# Altium schematic symbol library WE-TI.SchLib: 140 symbols (part 2 of 3)
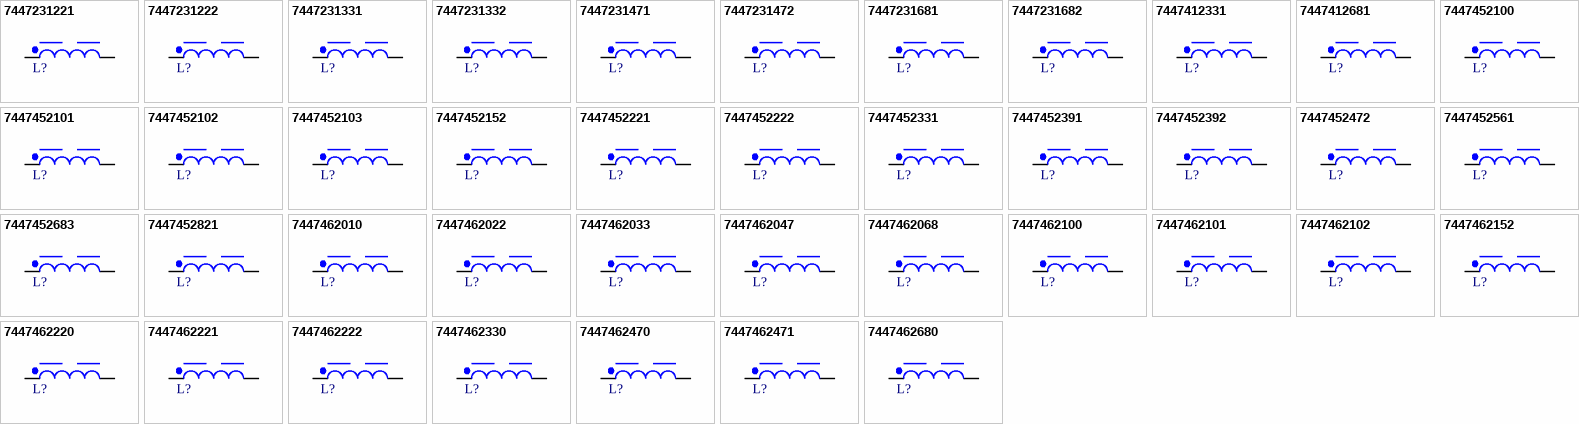
[diagram p4: symbols 7447231221 to 7447462680]

## 7447452391
designator L?, comment 390uH, 1A  (value not drawn)
WE-TI Radial Leaded Wire Wound Inductor, size 8012, 390uH, 1A, 0.52Ohm; Manufacturer Part Number: 7447452391; Manufacturer: Wurth Elektronik; Case/Size Code: 8012; Saturation Current @ 10%: 0.8A; Self Resonant Frequency: 2.4MHz; Category: Power Inductors; Match Code: WE-TI; ComponentLink1Description: Website Link; ComponentLink1URL: https://www.we-online.com/redexpert/article/7447452391?ad; ComponentLink2Description: Datasheet Link; ComponentLink2URL: https://www.we-online.com/redexpert/spec/7447452391?ad; Mount: Through Hole; Operating Temperature Max: 125°C; Operating Temperature Min: -40°C; Packaging: Tray; Height: 13.5mm; Diameter: 9.5mm; DC Resistance Max: 0.52Ohm; Inductance: 390uH; Rated Current: 1A
footprint WE-TI_8012
simulation model 8012_7447452391_390u
pins: 1, 2

## 7447452392
designator L?, comment 3900uH, 0.28A  (value not drawn)
WE-TI Radial Leaded Wire Wound Inductor, size 8012, 3900uH, 0.28A, 4.8Ohm; Manufacturer Part Number: 7447452392; Manufacturer: Wurth Elektronik; Case/Size Code: 8012; Saturation Current @ 10%: 0.25A; Self Resonant Frequency: 0.78MHz; Category: Power Inductors; Match Code: WE-TI; ComponentLink1Description: Website Link; ComponentLink1URL: https://www.we-online.com/redexpert/article/7447452392?ad; ComponentLink2Description: Datasheet Link; ComponentLink2URL: https://www.we-online.com/redexpert/spec/7447452392?ad; Mount: Through Hole; Operating Temperature Max: 125°C; Operating Temperature Min: -40°C; Packaging: Tray; Height: 13.5mm; Diameter: 9.5mm; DC Resistance Max: 4.8Ohm; Inductance: 3900uH; Rated Current: 0.28A
footprint WE-TI_8012
simulation model 8012_7447452392_3900u
pins: 1, 2

## 7447452472
designator L?, comment 4700uH, 0.23A  (value not drawn)
WE-TI Radial Leaded Wire Wound Inductor, size 8012, 4700uH, 0.23A, 7Ohm; Manufacturer Part Number: 7447452472; Manufacturer: Wurth Elektronik; Case/Size Code: 8012; Saturation Current @ 10%: 0.2A; Self Resonant Frequency: 0.65MHz; Category: Power Inductors; Match Code: WE-TI; ComponentLink1Description: Website Link; ComponentLink1URL: https://www.we-online.com/redexpert/article/7447452472?ad; ComponentLink2Description: Datasheet Link; ComponentLink2URL: https://www.we-online.com/redexpert/spec/7447452472?ad; Mount: Through Hole; Operating Temperature Max: 125°C; Operating Temperature Min: -40°C; Packaging: Tray; Height: 13.5mm; Diameter: 9.5mm; DC Resistance Max: 7Ohm; Inductance: 4700uH; Rated Current: 0.23A
footprint WE-TI_8012
simulation model 8012_7447452472_4700u
pins: 1, 2

## 7447452561
designator L?, comment 560uH, 0.81A  (value not drawn)
WE-TI Radial Leaded Wire Wound Inductor, size 8012, 560uH, 0.81A, 0.85Ohm; Manufacturer Part Number: 7447452561; Manufacturer: Wurth Elektronik; Case/Size Code: 8012; Saturation Current @ 10%: 0.75A; Self Resonant Frequency: 1.9MHz; Category: Power Inductors; Match Code: WE-TI; ComponentLink1Description: Website Link; ComponentLink1URL: https://www.we-online.com/redexpert/article/7447452561?ad; ComponentLink2Description: Datasheet Link; ComponentLink2URL: https://www.we-online.com/redexpert/spec/7447452561?ad; Mount: Through Hole; Operating Temperature Max: 125°C; Operating Temperature Min: -40°C; Packaging: Tray; Height: 13.5mm; Diameter: 9.5mm; DC Resistance Max: 0.85Ohm; Inductance: 560uH; Rated Current: 0.81A
footprint WE-TI_8012
simulation model 8012_7447452561_560u
pins: 1, 2

## 7447452683
designator L?, comment 68000uH, 0.05A  (value not drawn)
WE-TI Radial Leaded Wire Wound Inductor, size 8012, 68000uH, 0.05A, 106Ohm; Manufacturer Part Number: 7447452683; Manufacturer: Wurth Elektronik; Case/Size Code: 8012; Saturation Current @ 10%: 0.07A; Self Resonant Frequency: 0.16MHz; Category: Power Inductors; Match Code: WE-TI; ComponentLink1Description: Website Link; ComponentLink1URL: https://www.we-online.com/redexpert/article/7447452683?ad; ComponentLink2Description: Datasheet Link; ComponentLink2URL: https://www.we-online.com/redexpert/spec/7447452683?ad; Mount: Through Hole; Operating Temperature Max: 125°C; Operating Temperature Min: -40°C; Packaging: Tray; Height: 13.5mm; Diameter: 9.5mm; DC Resistance Max: 106Ohm; Inductance: 68000uH; Rated Current: 0.05A
footprint WE-TI_8012
simulation model 8012_7447452683_68000u
pins: 1, 2

## 7447452821
designator L?, comment 820uH, 0.7A  (value not drawn)
WE-TI Radial Leaded Wire Wound Inductor, size 8012, 820uH, 0.7A, 1.2Ohm; Manufacturer Part Number: 7447452821; Manufacturer: Wurth Elektronik; Case/Size Code: 8012; Saturation Current @ 10%: 0.6A; Self Resonant Frequency: 1.5MHz; Category: Power Inductors; Match Code: WE-TI; ComponentLink1Description: Website Link; ComponentLink1URL: https://www.we-online.com/redexpert/article/7447452821?ad; ComponentLink2Description: Datasheet Link; ComponentLink2URL: https://www.we-online.com/redexpert/spec/7447452821?ad; Mount: Through Hole; Operating Temperature Max: 125°C; Operating Temperature Min: -40°C; Packaging: Tray; Height: 13.5mm; Diameter: 9.5mm; DC Resistance Max: 1.2Ohm; Inductance: 820uH; Rated Current: 0.7A
footprint WE-TI_8012
simulation model 8012_7447452821_820u
pins: 1, 2

## 7447462010
designator L?, comment 1uH, 8.5A  (value not drawn)
WE-TI Radial Leaded Wire Wound Inductor, size 5075, 1uH, 8.5A, 0.015Ohm; Manufacturer Part Number: 7447462010; Manufacturer: Wurth Elektronik; Case/Size Code: 5075; Self Resonant Frequency: 140MHz; Category: Power Inductors; Match Code: WE-TI; ComponentLink1Description: Website Link; ComponentLink1URL: https://www.we-online.com/redexpert/article/7447462010?ad; ComponentLink2Description: Datasheet Link; ComponentLink2URL: https://www.we-online.com/redexpert/spec/7447462010?ad; Mount: Through Hole; Operating Temperature Max: 125°C; Operating Temperature Min: -40°C; Packaging: Tray; Height: 8.5mm; Diameter: 6mm; DC Resistance Max: 0.015Ohm; Inductance: 1uH; Rated Current: 8.5A; Saturation Current @ 10%: 8.5A
footprint WE-TI_5075
simulation model 5075_7447462010_1u
pins: 1, 2

## 7447462022
designator L?, comment 2.2uH, 6.3A  (value not drawn)
WE-TI Radial Leaded Wire Wound Inductor, size 5075, 2.2uH, 6.3A, 0.02Ohm; Manufacturer Part Number: 7447462022; Manufacturer: Wurth Elektronik; Case/Size Code: 5075; Saturation Current @ 10%: 5.7A; Self Resonant Frequency: 65MHz; Category: Power Inductors; Match Code: WE-TI; ComponentLink1Description: Website Link; ComponentLink1URL: https://www.we-online.com/redexpert/article/7447462022?ad; ComponentLink2Description: Datasheet Link; ComponentLink2URL: https://www.we-online.com/redexpert/spec/7447462022?ad; Mount: Through Hole; Operating Temperature Max: 125°C; Operating Temperature Min: -40°C; Packaging: Tray; Height: 8.5mm; Diameter: 6mm; DC Resistance Max: 0.02Ohm; Inductance: 2.2uH; Rated Current: 6.3A
footprint WE-TI_5075
simulation model 5075_7447462022_2.2u
pins: 1, 2

## 7447462033
designator L?, comment 3.3uH, 4.7A  (value not drawn)
WE-TI Radial Leaded Wire Wound Inductor, size 5075, 3.3uH, 4.7A, 0.025Ohm; Manufacturer Part Number: 7447462033; Manufacturer: Wurth Elektronik; Case/Size Code: 5075; Saturation Current @ 10%: 4.6A; Self Resonant Frequency: 48MHz; Category: Power Inductors; Match Code: WE-TI; ComponentLink1Description: Website Link; ComponentLink1URL: https://www.we-online.com/redexpert/article/7447462033?ad; ComponentLink2Description: Datasheet Link; ComponentLink2URL: https://www.we-online.com/redexpert/spec/7447462033?ad; Mount: Through Hole; Operating Temperature Max: 125°C; Operating Temperature Min: -40°C; Packaging: Tray; Height: 8.5mm; Diameter: 6mm; DC Resistance Max: 0.025Ohm; Inductance: 3.3uH; Rated Current: 4.7A
footprint WE-TI_5075
simulation model 5075_7447462033_3.3u
pins: 1, 2

## 7447462047
designator L?, comment 4.7uH, 4.2A  (value not drawn)
WE-TI Radial Leaded Wire Wound Inductor, size 5075, 4.7uH, 4.2A, 0.03Ohm; Manufacturer Part Number: 7447462047; Manufacturer: Wurth Elektronik; Case/Size Code: 5075; Saturation Current @ 10%: 3.7A; Self Resonant Frequency: 40MHz; Category: Power Inductors; Match Code: WE-TI; ComponentLink1Description: Website Link; ComponentLink1URL: https://www.we-online.com/redexpert/article/7447462047?ad; ComponentLink2Description: Datasheet Link; ComponentLink2URL: https://www.we-online.com/redexpert/spec/7447462047?ad; Mount: Through Hole; Operating Temperature Max: 125°C; Operating Temperature Min: -40°C; Packaging: Tray; Height: 8.5mm; Diameter: 6mm; DC Resistance Max: 0.03Ohm; Inductance: 4.7uH; Rated Current: 4.2A
footprint WE-TI_5075
simulation model 5075_7447462047_4.7u
pins: 1, 2

## 7447462068
designator L?, comment 6.8uH, 3.3A  (value not drawn)
WE-TI Radial Leaded Wire Wound Inductor, size 5075, 6.8uH, 3.3A, 0.034Ohm; Manufacturer Part Number: 7447462068; Manufacturer: Wurth Elektronik; Case/Size Code: 5075; Saturation Current @ 10%: 3A; Self Resonant Frequency: 32MHz; Category: Power Inductors; Match Code: WE-TI; ComponentLink1Description: Website Link; ComponentLink1URL: https://www.we-online.com/redexpert/article/7447462068?ad; ComponentLink2Description: Datasheet Link; ComponentLink2URL: https://www.we-online.com/redexpert/spec/7447462068?ad; Mount: Through Hole; Operating Temperature Max: 125°C; Operating Temperature Min: -40°C; Packaging: Tray; Height: 8.5mm; Diameter: 6mm; DC Resistance Max: 0.034Ohm; Inductance: 6.8uH; Rated Current: 3.3A
footprint WE-TI_5075
simulation model 5075_7447462068_6.8u
pins: 1, 2

## 7447462100
designator L?, comment 10uH, 2.5A  (value not drawn)
WE-TI Radial Leaded Wire Wound Inductor, size 5075, 10uH, 2.5A, 0.08Ohm; Manufacturer Part Number: 7447462100; Manufacturer: Wurth Elektronik; Case/Size Code: 5075; Saturation Current @ 10%: 2.6A; Self Resonant Frequency: 28MHz; Category: Power Inductors; Match Code: WE-TI; ComponentLink1Description: Website Link; ComponentLink1URL: https://www.we-online.com/redexpert/article/7447462100?ad; ComponentLink2Description: Datasheet Link; ComponentLink2URL: https://www.we-online.com/redexpert/spec/7447462100?ad; Mount: Through Hole; Operating Temperature Max: 125°C; Operating Temperature Min: -40°C; Packaging: Tray; Height: 8.5mm; Diameter: 6mm; DC Resistance Max: 0.08Ohm; Inductance: 10uH; Rated Current: 2.5A
footprint WE-TI_5075
simulation model 5075_7447462100_10u
pins: 1, 2

## 7447462101
designator L?, comment 100uH, 0.8A  (value not drawn)
WE-TI Radial Leaded Wire Wound Inductor, size 5075, 100uH, 0.8A, 0.65Ohm; Manufacturer Part Number: 7447462101; Manufacturer: Wurth Elektronik; Case/Size Code: 5075; Self Resonant Frequency: 7.1MHz; Category: Power Inductors; Match Code: WE-TI; ComponentLink1Description: Website Link; ComponentLink1URL: https://www.we-online.com/redexpert/article/7447462101?ad; ComponentLink2Description: Datasheet Link; ComponentLink2URL: https://www.we-online.com/redexpert/spec/7447462101?ad; Mount: Through Hole; Operating Temperature Max: 125°C; Operating Temperature Min: -40°C; Packaging: Tray; Height: 8.5mm; Diameter: 6mm; DC Resistance Max: 0.65Ohm; Inductance: 100uH; Rated Current: 0.8A; Saturation Current @ 10%: 0.8A
footprint WE-TI_5075
simulation model 5075_7447462101_100u
pins: 1, 2

## 7447462102
designator L?, comment 1000uH, 0.25A  (value not drawn)
WE-TI Radial Leaded Wire Wound Inductor, size 5075, 1000uH, 0.25A, 6Ohm; Manufacturer Part Number: 7447462102; Manufacturer: Wurth Elektronik; Case/Size Code: 5075; Saturation Current @ 10%: 0.27A; Self Resonant Frequency: 2.3MHz; Category: Power Inductors; Match Code: WE-TI; ComponentLink1Description: Website Link; ComponentLink1URL: https://www.we-online.com/redexpert/article/7447462102?ad; ComponentLink2Description: Datasheet Link; ComponentLink2URL: https://www.we-online.com/redexpert/spec/7447462102?ad; Mount: Through Hole; Operating Temperature Max: 125°C; Operating Temperature Min: -40°C; Packaging: Tray; Height: 8.5mm; Diameter: 6mm; DC Resistance Max: 6Ohm; Inductance: 1000uH; Rated Current: 0.25A
footprint WE-TI_5075
simulation model 5075_7447462102_1000u
pins: 1, 2

## 7447462152
designator L?, comment 1500uH, 0.19A  (value not drawn)
WE-TI Radial Leaded Wire Wound Inductor, size 5075, 1500uH, 0.19A, 8Ohm; Manufacturer Part Number: 7447462152; Manufacturer: Wurth Elektronik; Case/Size Code: 5075; Saturation Current @ 10%: 0.22A; Self Resonant Frequency: 1.8MHz; Category: Power Inductors; Match Code: WE-TI; ComponentLink1Description: Website Link; ComponentLink1URL: https://www.we-online.com/redexpert/article/7447462152?ad; ComponentLink2Description: Datasheet Link; ComponentLink2URL: https://www.we-online.com/redexpert/spec/7447462152?ad; Mount: Through Hole; Operating Temperature Max: 125°C; Operating Temperature Min: -40°C; Packaging: Tray; Height: 8.5mm; Diameter: 6mm; DC Resistance Max: 8Ohm; Inductance: 1500uH; Rated Current: 0.19A
footprint WE-TI_5075
simulation model 5075_7447462152_1500u
pins: 1, 2

## 7447462220
designator L?, comment 22uH, 1.8A  (value not drawn)
WE-TI Radial Leaded Wire Wound Inductor, size 5075, 22uH, 1.8A, 0.13Ohm; Manufacturer Part Number: 7447462220; Manufacturer: Wurth Elektronik; Case/Size Code: 5075; Saturation Current @ 10%: 1.7A; Self Resonant Frequency: 15MHz; Category: Power Inductors; Match Code: WE-TI; ComponentLink1Description: Website Link; ComponentLink1URL: https://www.we-online.com/redexpert/article/7447462220?ad; ComponentLink2Description: Datasheet Link; ComponentLink2URL: https://www.we-online.com/redexpert/spec/7447462220?ad; Mount: Through Hole; Operating Temperature Max: 125°C; Operating Temperature Min: -40°C; Packaging: Tray; Height: 8.5mm; Diameter: 6mm; DC Resistance Max: 0.13Ohm; Inductance: 22uH; Rated Current: 1.8A
footprint WE-TI_5075
simulation model 5075_7447462220_22u
pins: 1, 2

## 7447462221
designator L?, comment 220uH, 0.5A  (value not drawn)
WE-TI Radial Leaded Wire Wound Inductor, size 5075, 220uH, 0.5A, 1.2Ohm; Manufacturer Part Number: 7447462221; Manufacturer: Wurth Elektronik; Case/Size Code: 5075; Saturation Current @ 10%: 0.57A; Self Resonant Frequency: 4.8MHz; Category: Power Inductors; Match Code: WE-TI; ComponentLink1Description: Website Link; ComponentLink1URL: https://www.we-online.com/redexpert/article/7447462221?ad; ComponentLink2Description: Datasheet Link; ComponentLink2URL: https://www.we-online.com/redexpert/spec/7447462221?ad; Mount: Through Hole; Operating Temperature Max: 125°C; Operating Temperature Min: -40°C; Packaging: Tray; Height: 8.5mm; Diameter: 6mm; DC Resistance Max: 1.2Ohm; Inductance: 220uH; Rated Current: 0.5A
footprint WE-TI_5075
simulation model 5075_7447462221_220u
pins: 1, 2

## 7447462222
designator L?, comment 2200uH, 0.16A  (value not drawn)
WE-TI Radial Leaded Wire Wound Inductor, size 5075, 2200uH, 0.16A, 15Ohm; Manufacturer Part Number: 7447462222; Manufacturer: Wurth Elektronik; Case/Size Code: 5075; Saturation Current @ 10%: 0.18A; Self Resonant Frequency: 1.2MHz; Category: Power Inductors; Match Code: WE-TI; ComponentLink1Description: Website Link; ComponentLink1URL: https://www.we-online.com/redexpert/article/7447462222?ad; ComponentLink2Description: Datasheet Link; ComponentLink2URL: https://www.we-online.com/redexpert/spec/7447462222?ad; Mount: Through Hole; Operating Temperature Max: 125°C; Operating Temperature Min: -40°C; Packaging: Tray; Height: 8.5mm; Diameter: 6mm; DC Resistance Max: 15Ohm; Inductance: 2200uH; Rated Current: 0.16A
footprint WE-TI_5075
simulation model 5075_7447462222_2200u
pins: 1, 2

## 7447462330
designator L?, comment 33uH, 1.4A  (value not drawn)
WE-TI Radial Leaded Wire Wound Inductor, size 5075, 33uH, 1.4A, 0.22Ohm; Manufacturer Part Number: 7447462330; Manufacturer: Wurth Elektronik; Case/Size Code: 5075; Self Resonant Frequency: 14MHz; Category: Power Inductors; Match Code: WE-TI; ComponentLink1Description: Website Link; ComponentLink1URL: https://www.we-online.com/redexpert/article/7447462330?ad; ComponentLink2Description: Datasheet Link; ComponentLink2URL: https://www.we-online.com/redexpert/spec/7447462330?ad; Mount: Through Hole; Operating Temperature Max: 125°C; Operating Temperature Min: -40°C; Packaging: Tray; Height: 8.5mm; Diameter: 6mm; DC Resistance Max: 0.22Ohm; Inductance: 33uH; Rated Current: 1.4A; Saturation Current @ 10%: 1.4A
footprint WE-TI_5075
simulation model 5075_7447462330_33u
pins: 1, 2

## 7447462470
designator L?, comment 47uH, 1.18A  (value not drawn)
WE-TI Radial Leaded Wire Wound Inductor, size 5075, 47uH, 1.18A, 0.34Ohm; Manufacturer Part Number: 7447462470; Manufacturer: Wurth Elektronik; Case/Size Code: 5075; Saturation Current @ 10%: 1.2A; Self Resonant Frequency: 10.6MHz; Category: Power Inductors; Match Code: WE-TI; ComponentLink1Description: Website Link; ComponentLink1URL: https://www.we-online.com/redexpert/article/7447462470?ad; ComponentLink2Description: Datasheet Link; ComponentLink2URL: https://www.we-online.com/redexpert/spec/7447462470?ad; Mount: Through Hole; Operating Temperature Max: 125°C; Operating Temperature Min: -40°C; Packaging: Tray; Height: 8.5mm; Diameter: 6mm; DC Resistance Max: 0.34Ohm; Inductance: 47uH; Rated Current: 1.18A
footprint WE-TI_5075
simulation model 5075_7447462470_47u
pins: 1, 2

## 7447462471
designator L?, comment 470uH, 0.35A  (value not drawn)
WE-TI Radial Leaded Wire Wound Inductor, size 5075, 470uH, 0.35A, 2.4Ohm; Manufacturer Part Number: 7447462471; Manufacturer: Wurth Elektronik; Case/Size Code: 5075; Saturation Current @ 10%: 0.4A; Self Resonant Frequency: 3.4MHz; Category: Power Inductors; Match Code: WE-TI; ComponentLink1Description: Website Link; ComponentLink1URL: https://www.we-online.com/redexpert/article/7447462471?ad; ComponentLink2Description: Datasheet Link; ComponentLink2URL: https://www.we-online.com/redexpert/spec/7447462471?ad; Mount: Through Hole; Operating Temperature Max: 125°C; Operating Temperature Min: -40°C; Packaging: Tray; Height: 8.5mm; Diameter: 6mm; DC Resistance Max: 2.4Ohm; Inductance: 470uH; Rated Current: 0.35A
footprint WE-TI_5075
simulation model 5075_7447462471_470u
pins: 1, 2

## 7447462680
designator L?, comment 68uH, 0.8A  (value not drawn)
WE-TI Radial Leaded Wire Wound Inductor, size 5075, 68uH, 0.8A, 0.4Ohm; Manufacturer Part Number: 7447462680; Manufacturer: Wurth Elektronik; Case/Size Code: 5075; Saturation Current @ 10%: 1A; Self Resonant Frequency: 7.5MHz; Category: Power Inductors; Match Code: WE-TI; ComponentLink1Description: Website Link; ComponentLink1URL: https://www.we-online.com/redexpert/article/7447462680?ad; ComponentLink2Description: Datasheet Link; ComponentLink2URL: https://www.we-online.com/redexpert/spec/7447462680?ad; Mount: Through Hole; Operating Temperature Max: 125°C; Operating Temperature Min: -40°C; Packaging: Tray; Height: 8.5mm; Diameter: 6mm; DC Resistance Max: 0.4Ohm; Inductance: 68uH; Rated Current: 0.8A
footprint WE-TI_5075
simulation model 5075_7447462680_68u
pins: 1, 2

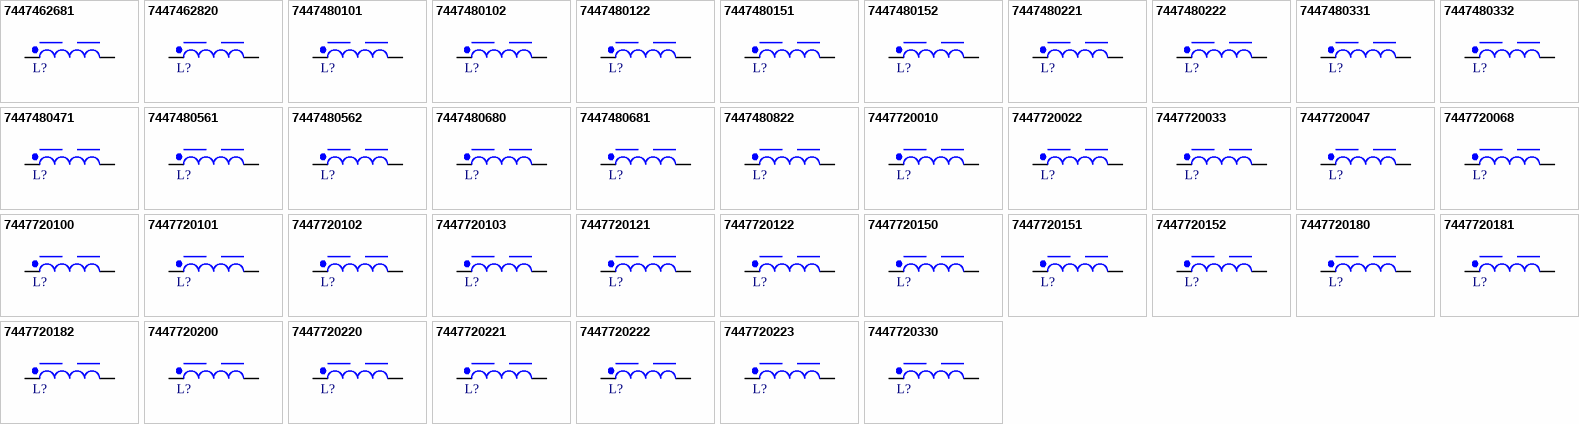
[diagram p2: symbols 7447462681 to 7447720330]

## 7447462681
designator L?, comment 680uH, 0.25A  (value not drawn)
WE-TI Radial Leaded Wire Wound Inductor, size 5075, 680uH, 0.25A, 3.7Ohm; Manufacturer Part Number: 7447462681; Manufacturer: Wurth Elektronik; Case/Size Code: 5075; Saturation Current @ 10%: 0.3A; Self Resonant Frequency: 2.4MHz; Category: Power Inductors; Match Code: WE-TI; ComponentLink1Description: Website Link; ComponentLink1URL: https://www.we-online.com/redexpert/article/7447462681?ad; ComponentLink2Description: Datasheet Link; ComponentLink2URL: https://www.we-online.com/redexpert/spec/7447462681?ad; Mount: Through Hole; Operating Temperature Max: 125°C; Operating Temperature Min: -40°C; Packaging: Tray; Height: 8.5mm; Diameter: 6mm; DC Resistance Max: 3.7Ohm; Inductance: 680uH; Rated Current: 0.25A
footprint WE-TI_5075
simulation model 5075_7447462681_680u
pins: 1, 2

## 7447462820
designator L?, comment 82uH, 0.8A  (value not drawn)
WE-TI Radial Leaded Wire Wound Inductor, size 5075, 82uH, 0.8A, 0.47Ohm; Manufacturer Part Number: 7447462820; Manufacturer: Wurth Elektronik; Case/Size Code: 5075; Saturation Current @ 10%: 0.9A; Self Resonant Frequency: 7.2MHz; Category: Power Inductors; Match Code: WE-TI; ComponentLink1Description: Website Link; ComponentLink1URL: https://www.we-online.com/redexpert/article/7447462820?ad; ComponentLink2Description: Datasheet Link; ComponentLink2URL: https://www.we-online.com/redexpert/spec/7447462820?ad; Mount: Through Hole; Operating Temperature Max: 125°C; Operating Temperature Min: -40°C; Packaging: Tray; Height: 8.5mm; Diameter: 6mm; DC Resistance Max: 0.47Ohm; Inductance: 82uH; Rated Current: 0.8A
footprint WE-TI_5075
simulation model 5075_7447462820_82u
pins: 1, 2

## 7447480101
designator L?, comment 100uH, 2.4A  (value not drawn)
WE-TI Radial Leaded Wire Wound Inductor, size 1014, 100uH, 2.4A, 0.125Ohm; Manufacturer Part Number: 7447480101; Manufacturer: Wurth Elektronik; Case/Size Code: 1014; Saturation Current @ 10%: 2.5A; Self Resonant Frequency: 4.5MHz; Category: Power Inductors; Match Code: WE-TI; ComponentLink1Description: Website Link; ComponentLink1URL: https://www.we-online.com/redexpert/article/7447480101?ad; ComponentLink2Description: Datasheet Link; ComponentLink2URL: https://www.we-online.com/redexpert/spec/7447480101?ad; Mount: Through Hole; Operating Temperature Max: 125°C; Operating Temperature Min: -40°C; Packaging: Tray; Height: 14.5mm; Diameter: 10.5mm; DC Resistance Max: 0.125Ohm; Inductance: 100uH; Rated Current: 2.4A
footprint WE-TI_1014
simulation model 1014_7447480101_100u
pins: 1, 2

## 7447480102
designator L?, comment 1000uH, 0.8A  (value not drawn)
WE-TI Radial Leaded Wire Wound Inductor, size 1014, 1000uH, 0.8A, 1.15Ohm; Manufacturer Part Number: 7447480102; Manufacturer: Wurth Elektronik; Case/Size Code: 1014; Self Resonant Frequency: 1.1MHz; Category: Power Inductors; Match Code: WE-TI; ComponentLink1Description: Website Link; ComponentLink1URL: https://www.we-online.com/redexpert/article/7447480102?ad; ComponentLink2Description: Datasheet Link; ComponentLink2URL: https://www.we-online.com/redexpert/spec/7447480102?ad; Mount: Through Hole; Operating Temperature Max: 125°C; Operating Temperature Min: -40°C; Packaging: Tray; Height: 14.5mm; Diameter: 10.5mm; DC Resistance Max: 1.15Ohm; Inductance: 1000uH; Rated Current: 0.8A; Saturation Current @ 10%: 0.8A
footprint WE-TI_1014
simulation model 1014_7447480102_1000u
pins: 1, 2

## 7447480122
designator L?, comment 1200uH, 0.7A  (value not drawn)
WE-TI Radial Leaded Wire Wound Inductor, size 1014, 1200uH, 0.7A, 1.4Ohm; Manufacturer Part Number: 7447480122; Manufacturer: Wurth Elektronik; Case/Size Code: 1014; Saturation Current @ 10%: 0.75A; Self Resonant Frequency: 1MHz; Category: Power Inductors; Match Code: WE-TI; ComponentLink1Description: Website Link; ComponentLink1URL: https://www.we-online.com/redexpert/article/7447480122?ad; ComponentLink2Description: Datasheet Link; ComponentLink2URL: https://www.we-online.com/redexpert/spec/7447480122?ad; Mount: Through Hole; Operating Temperature Max: 125°C; Operating Temperature Min: -40°C; Packaging: Tray; Height: 14.5mm; Diameter: 10.5mm; DC Resistance Max: 1.4Ohm; Inductance: 1200uH; Rated Current: 0.7A
footprint WE-TI_1014
simulation model 1014_7447480122_1200u
pins: 1, 2

## 7447480151
designator L?, comment 150uH, 2A  (value not drawn)
WE-TI Radial Leaded Wire Wound Inductor, size 1014, 150uH, 2A, 0.18Ohm; Manufacturer Part Number: 7447480151; Manufacturer: Wurth Elektronik; Case/Size Code: 1014; Saturation Current @ 10%: 2.1A; Self Resonant Frequency: 3.5MHz; Category: Power Inductors; Match Code: WE-TI; ComponentLink1Description: Website Link; ComponentLink1URL: https://www.we-online.com/redexpert/article/7447480151?ad; ComponentLink2Description: Datasheet Link; ComponentLink2URL: https://www.we-online.com/redexpert/spec/7447480151?ad; Mount: Through Hole; Operating Temperature Max: 125°C; Operating Temperature Min: -40°C; Packaging: Tray; Height: 14.5mm; Diameter: 10.5mm; DC Resistance Max: 0.18Ohm; Inductance: 150uH; Rated Current: 2A
footprint WE-TI_1014
simulation model 1014_7447480151_150u
pins: 1, 2

## 7447480152
designator L?, comment 1500uH, 0.68A  (value not drawn)
WE-TI Radial Leaded Wire Wound Inductor, size 1014, 1500uH, 0.68A, 1.8Ohm; Manufacturer Part Number: 7447480152; Manufacturer: Wurth Elektronik; Case/Size Code: 1014; Saturation Current @ 10%: 0.6A; Self Resonant Frequency: 1MHz; Category: Power Inductors; Match Code: WE-TI; ComponentLink1Description: Website Link; ComponentLink1URL: https://www.we-online.com/redexpert/article/7447480152?ad; ComponentLink2Description: Datasheet Link; ComponentLink2URL: https://www.we-online.com/redexpert/spec/7447480152?ad; Mount: Through Hole; Operating Temperature Max: 125°C; Operating Temperature Min: -40°C; Packaging: Tray; Height: 14.5mm; Diameter: 10.5mm; DC Resistance Max: 1.8Ohm; Inductance: 1500uH; Rated Current: 0.68A
footprint WE-TI_1014
simulation model 1014_7447480152_1500u
pins: 1, 2

## 7447480221
designator L?, comment 220uH, 1.6A  (value not drawn)
WE-TI Radial Leaded Wire Wound Inductor, size 1014, 220uH, 1.6A, 0.26Ohm; Manufacturer Part Number: 7447480221; Manufacturer: Wurth Elektronik; Case/Size Code: 1014; Saturation Current @ 10%: 1.75A; Self Resonant Frequency: 2.3MHz; Category: Power Inductors; Match Code: WE-TI; ComponentLink1Description: Website Link; ComponentLink1URL: https://www.we-online.com/redexpert/article/7447480221?ad; ComponentLink2Description: Datasheet Link; ComponentLink2URL: https://www.we-online.com/redexpert/spec/7447480221?ad; Mount: Through Hole; Operating Temperature Max: 125°C; Operating Temperature Min: -40°C; Packaging: Tray; Height: 14.5mm; Diameter: 10.5mm; DC Resistance Max: 0.26Ohm; Inductance: 220uH; Rated Current: 1.6A
footprint WE-TI_1014
simulation model 1014_7447480221_220u
pins: 1, 2

## 7447480222
designator L?, comment 2200uH, 0.48A  (value not drawn)
WE-TI Radial Leaded Wire Wound Inductor, size 1014, 2200uH, 0.48A, 2.5Ohm; Manufacturer Part Number: 7447480222; Manufacturer: Wurth Elektronik; Case/Size Code: 1014; Saturation Current @ 10%: 0.56A; Self Resonant Frequency: 0.83MHz; Category: Power Inductors; Match Code: WE-TI; ComponentLink1Description: Website Link; ComponentLink1URL: https://www.we-online.com/redexpert/article/7447480222?ad; ComponentLink2Description: Datasheet Link; ComponentLink2URL: https://www.we-online.com/redexpert/spec/7447480222?ad; Mount: Through Hole; Operating Temperature Max: 125°C; Operating Temperature Min: -40°C; Packaging: Tray; Height: 14.5mm; Diameter: 10.5mm; DC Resistance Max: 2.5Ohm; Inductance: 2200uH; Rated Current: 0.48A
footprint WE-TI_1014
simulation model 1014_7447480222_2200u
pins: 1, 2

## 7447480331
designator L?, comment 330uH, 1.4A  (value not drawn)
WE-TI Radial Leaded Wire Wound Inductor, size 1014, 330uH, 1.4A, 0.33Ohm; Manufacturer Part Number: 7447480331; Manufacturer: Wurth Elektronik; Case/Size Code: 1014; Saturation Current @ 10%: 1.6A; Self Resonant Frequency: 2.2MHz; Category: Power Inductors; Match Code: WE-TI; ComponentLink1Description: Website Link; ComponentLink1URL: https://www.we-online.com/redexpert/article/7447480331?ad; ComponentLink2Description: Datasheet Link; ComponentLink2URL: https://www.we-online.com/redexpert/spec/7447480331?ad; Mount: Through Hole; Operating Temperature Max: 125°C; Operating Temperature Min: -40°C; Packaging: Tray; Height: 14.5mm; Diameter: 10.5mm; DC Resistance Max: 0.33Ohm; Inductance: 330uH; Rated Current: 1.4A
footprint WE-TI_1014
simulation model 1014_7447480331_330u
pins: 1, 2

## 7447480332
designator L?, comment 3300uH, 0.36A  (value not drawn)
WE-TI Radial Leaded Wire Wound Inductor, size 1014, 3300uH, 0.36A, 4Ohm; Manufacturer Part Number: 7447480332; Manufacturer: Wurth Elektronik; Case/Size Code: 1014; Saturation Current @ 10%: 0.4A; Self Resonant Frequency: 0.7MHz; Category: Power Inductors; Match Code: WE-TI; ComponentLink1Description: Website Link; ComponentLink1URL: https://www.we-online.com/redexpert/article/7447480332?ad; ComponentLink2Description: Datasheet Link; ComponentLink2URL: https://www.we-online.com/redexpert/spec/7447480332?ad; Mount: Through Hole; Operating Temperature Max: 125°C; Operating Temperature Min: -40°C; Packaging: Tray; Height: 14.5mm; Diameter: 10.5mm; DC Resistance Max: 4Ohm; Inductance: 3300uH; Rated Current: 0.36A
footprint WE-TI_1014
simulation model 1014_7447480332_3300u
pins: 1, 2

## 7447480471
designator L?, comment 470uH, 1.15A  (value not drawn)
WE-TI Radial Leaded Wire Wound Inductor, size 1014, 470uH, 1.15A, 0.52Ohm; Manufacturer Part Number: 7447480471; Manufacturer: Wurth Elektronik; Case/Size Code: 1014; Self Resonant Frequency: 1.8MHz; Category: Power Inductors; Match Code: WE-TI; ComponentLink1Description: Website Link; ComponentLink1URL: https://www.we-online.com/redexpert/article/7447480471?ad; ComponentLink2Description: Datasheet Link; ComponentLink2URL: https://www.we-online.com/redexpert/spec/7447480471?ad; Mount: Through Hole; Operating Temperature Max: 125°C; Operating Temperature Min: -40°C; Packaging: Tray; Height: 14.5mm; Diameter: 10.5mm; DC Resistance Max: 0.52Ohm; Inductance: 470uH; Rated Current: 1.15A; Saturation Current @ 10%: 1.15A
footprint WE-TI_1014
simulation model 1014_7447480471_470u
pins: 1, 2

## 7447480561
designator L?, comment 560uH, 1A  (value not drawn)
WE-TI Radial Leaded Wire Wound Inductor, size 1014, 560uH, 1A, 0.65Ohm; Manufacturer Part Number: 7447480561; Manufacturer: Wurth Elektronik; Case/Size Code: 1014; Saturation Current @ 10%: 1.1A; Self Resonant Frequency: 1.6MHz; Category: Power Inductors; Match Code: WE-TI; ComponentLink1Description: Website Link; ComponentLink1URL: https://www.we-online.com/redexpert/article/7447480561?ad; ComponentLink2Description: Datasheet Link; ComponentLink2URL: https://www.we-online.com/redexpert/spec/7447480561?ad; Mount: Through Hole; Operating Temperature Max: 125°C; Operating Temperature Min: -40°C; Packaging: Tray; Height: 14.5mm; Diameter: 10.5mm; DC Resistance Max: 0.65Ohm; Inductance: 560uH; Rated Current: 1A
footprint WE-TI_1014
simulation model 1014_7447480561_560u
pins: 1, 2

## 7447480562
designator L?, comment 5600uH, 0.32A  (value not drawn)
WE-TI Radial Leaded Wire Wound Inductor, size 1014, 5600uH, 0.32A, 5.8Ohm; Manufacturer Part Number: 7447480562; Manufacturer: Wurth Elektronik; Case/Size Code: 1014; Saturation Current @ 10%: 0.34A; Self Resonant Frequency: 0.54MHz; Category: Power Inductors; Match Code: WE-TI; ComponentLink1Description: Website Link; ComponentLink1URL: https://www.we-online.com/redexpert/article/7447480562?ad; ComponentLink2Description: Datasheet Link; ComponentLink2URL: https://www.we-online.com/redexpert/spec/7447480562?ad; Mount: Through Hole; Operating Temperature Max: 125°C; Operating Temperature Min: -40°C; Packaging: Tray; Height: 14.5mm; Diameter: 10.5mm; DC Resistance Max: 5.8Ohm; Inductance: 5600uH; Rated Current: 0.32A
footprint WE-TI_1014
simulation model 1014_7447480562_5600u
pins: 1, 2

## 7447480680
designator L?, comment 68uH, 2.9A  (value not drawn)
WE-TI Radial Leaded Wire Wound Inductor, size 1014, 68uH, 2.9A, 0.08Ohm; Manufacturer Part Number: 7447480680; Manufacturer: Wurth Elektronik; Case/Size Code: 1014; Saturation Current @ 10%: 3.5A; Self Resonant Frequency: 6MHz; Category: Power Inductors; Match Code: WE-TI; ComponentLink1Description: Website Link; ComponentLink1URL: https://www.we-online.com/redexpert/article/7447480680?ad; ComponentLink2Description: Datasheet Link; ComponentLink2URL: https://www.we-online.com/redexpert/spec/7447480680?ad; Mount: Through Hole; Operating Temperature Max: 125°C; Operating Temperature Min: -40°C; Packaging: Tray; Height: 14.5mm; Diameter: 10.5mm; DC Resistance Max: 0.08Ohm; Inductance: 68uH; Rated Current: 2.9A
footprint WE-TI_1014
simulation model 1014_7447480680_68u
pins: 1, 2

## 7447480681
designator L?, comment 680uH, 0.9A  (value not drawn)
WE-TI Radial Leaded Wire Wound Inductor, size 1014, 680uH, 0.9A, 0.79Ohm; Manufacturer Part Number: 7447480681; Manufacturer: Wurth Elektronik; Case/Size Code: 1014; Saturation Current @ 10%: 1A; Self Resonant Frequency: 1.5MHz; Category: Power Inductors; Match Code: WE-TI; ComponentLink1Description: Website Link; ComponentLink1URL: https://www.we-online.com/redexpert/article/7447480681?ad; ComponentLink2Description: Datasheet Link; ComponentLink2URL: https://www.we-online.com/redexpert/spec/7447480681?ad; Mount: Through Hole; Operating Temperature Max: 125°C; Operating Temperature Min: -40°C; Packaging: Tray; Height: 14.5mm; Diameter: 10.5mm; DC Resistance Max: 0.79Ohm; Inductance: 680uH; Rated Current: 0.9A
footprint WE-TI_1014
simulation model 1014_7447480681_680u
pins: 1, 2

## 7447480822
designator L?, comment 8200uH, 0.3A  (value not drawn)
WE-TI Radial Leaded Wire Wound Inductor, size 1014, 8200uH, 0.3A, 9Ohm; Manufacturer Part Number: 7447480822; Manufacturer: Wurth Elektronik; Case/Size Code: 1014; Self Resonant Frequency: 0.44MHz; Category: Power Inductors; Match Code: WE-TI; ComponentLink1Description: Website Link; ComponentLink1URL: https://www.we-online.com/redexpert/article/7447480822?ad; ComponentLink2Description: Datasheet Link; ComponentLink2URL: https://www.we-online.com/redexpert/spec/7447480822?ad; Mount: Through Hole; Operating Temperature Max: 125°C; Operating Temperature Min: -40°C; Packaging: Tray; Height: 14.5mm; Diameter: 10.5mm; DC Resistance Max: 9Ohm; Inductance: 8200uH; Rated Current: 0.3A; Saturation Current @ 10%: 0.3A
footprint WE-TI_1014
simulation model 1014_7447480822_8200u
pins: 1, 2

## 7447720010
designator L?, comment 1uH, 6.9A  (value not drawn)
WE-TI Radial Leaded Wire Wound Inductor, size 8095, 1uH, 6.9A, 0.0135Ohm; Manufacturer Part Number: 7447720010; Manufacturer: Wurth Elektronik; Case/Size Code: 8095; Saturation Current @ 10%: 15A; Self Resonant Frequency: 195MHz; Category: Power Inductors; Match Code: WE-TI; ComponentLink1Description: Website Link; ComponentLink1URL: https://www.we-online.com/redexpert/article/7447720010?ad; ComponentLink2Description: Datasheet Link; ComponentLink2URL: https://www.we-online.com/redexpert/spec/7447720010?ad; Mount: Through Hole; Operating Temperature Max: 125°C; Operating Temperature Min: -40°C; Packaging: Tray; Height: 9.5mm; Diameter: 7.8mm; DC Resistance Max: 0.0135Ohm; Inductance: 1uH; Rated Current: 6.9A
footprint WE-TI_8095
simulation model 8095_7447720010_1u
pins: 1, 2

## 7447720022
designator L?, comment 2.2uH, 5.3A  (value not drawn)
WE-TI Radial Leaded Wire Wound Inductor, size 8095, 2.2uH, 5.3A, 0.018Ohm; Manufacturer Part Number: 7447720022; Manufacturer: Wurth Elektronik; Case/Size Code: 8095; Saturation Current @ 10%: 10A; Self Resonant Frequency: 120MHz; Category: Power Inductors; Match Code: WE-TI; ComponentLink1Description: Website Link; ComponentLink1URL: https://www.we-online.com/redexpert/article/7447720022?ad; ComponentLink2Description: Datasheet Link; ComponentLink2URL: https://www.we-online.com/redexpert/spec/7447720022?ad; Mount: Through Hole; Operating Temperature Max: 125°C; Operating Temperature Min: -40°C; Packaging: Tray; Height: 9.5mm; Diameter: 7.8mm; DC Resistance Max: 0.018Ohm; Inductance: 2.2uH; Rated Current: 5.3A
footprint WE-TI_8095
simulation model 8095_7447720022_2.2u
pins: 1, 2

## 7447720033
designator L?, comment 3.3uH, 5A  (value not drawn)
WE-TI Radial Leaded Wire Wound Inductor, size 8095, 3.3uH, 5A, 0.024Ohm; Manufacturer Part Number: 7447720033; Manufacturer: Wurth Elektronik; Case/Size Code: 8095; Saturation Current @ 10%: 8.5A; Self Resonant Frequency: 95MHz; Category: Power Inductors; Match Code: WE-TI; ComponentLink1Description: Website Link; ComponentLink1URL: https://www.we-online.com/redexpert/article/7447720033?ad; ComponentLink2Description: Datasheet Link; ComponentLink2URL: https://www.we-online.com/redexpert/spec/7447720033?ad; Mount: Through Hole; Operating Temperature Max: 125°C; Operating Temperature Min: -40°C; Packaging: Tray; Height: 9.5mm; Diameter: 7.8mm; DC Resistance Max: 0.024Ohm; Inductance: 3.3uH; Rated Current: 5A
footprint WE-TI_8095
simulation model 8095_7447720033_3.3u
pins: 1, 2

## 7447720047
designator L?, comment 4.7uH, 4.5A  (value not drawn)
WE-TI Radial Leaded Wire Wound Inductor, size 8095, 4.7uH, 4.5A, 0.03Ohm; Manufacturer Part Number: 7447720047; Manufacturer: Wurth Elektronik; Case/Size Code: 8095; Saturation Current @ 10%: 7.2A; Self Resonant Frequency: 70MHz; Category: Power Inductors; Match Code: WE-TI; ComponentLink1Description: Website Link; ComponentLink1URL: https://www.we-online.com/redexpert/article/7447720047?ad; ComponentLink2Description: Datasheet Link; ComponentLink2URL: https://www.we-online.com/redexpert/spec/7447720047?ad; Mount: Through Hole; Operating Temperature Max: 125°C; Operating Temperature Min: -40°C; Packaging: Tray; Height: 9.5mm; Diameter: 7.8mm; DC Resistance Max: 0.03Ohm; Inductance: 4.7uH; Rated Current: 4.5A
footprint WE-TI_8095
simulation model 8095_7447720047_4.7u
pins: 1, 2

## 7447720068
designator L?, comment 6.8uH, 3.9A  (value not drawn)
WE-TI Radial Leaded Wire Wound Inductor, size 8095, 6.8uH, 3.9A, 0.032Ohm; Manufacturer Part Number: 7447720068; Manufacturer: Wurth Elektronik; Case/Size Code: 8095; Saturation Current @ 10%: 6A; Self Resonant Frequency: 36MHz; Category: Power Inductors; Match Code: WE-TI; ComponentLink1Description: Website Link; ComponentLink1URL: https://www.we-online.com/redexpert/article/7447720068?ad; ComponentLink2Description: Datasheet Link; ComponentLink2URL: https://www.we-online.com/redexpert/spec/7447720068?ad; Mount: Through Hole; Operating Temperature Max: 125°C; Operating Temperature Min: -40°C; Packaging: Tray; Height: 9.5mm; Diameter: 7.8mm; DC Resistance Max: 0.032Ohm; Inductance: 6.8uH; Rated Current: 3.9A
footprint WE-TI_8095
simulation model 8095_7447720068_6.8u
pins: 1, 2

## 7447720100
designator L?, comment 10uH, 3.5A  (value not drawn)
WE-TI Radial Leaded Wire Wound Inductor, size 8095, 10uH, 3.5A, 0.043Ohm; Manufacturer Part Number: 7447720100; Manufacturer: Wurth Elektronik; Case/Size Code: 8095; Saturation Current @ 10%: 4.9A; Self Resonant Frequency: 18MHz; Category: Power Inductors; Match Code: WE-TI; ComponentLink1Description: Website Link; ComponentLink1URL: https://www.we-online.com/redexpert/article/7447720100?ad; ComponentLink2Description: Datasheet Link; ComponentLink2URL: https://www.we-online.com/redexpert/spec/7447720100?ad; Mount: Through Hole; Operating Temperature Max: 125°C; Operating Temperature Min: -40°C; Packaging: Tray; Height: 9.5mm; Diameter: 7.8mm; DC Resistance Max: 0.043Ohm; Inductance: 10uH; Rated Current: 3.5A
footprint WE-TI_8095
simulation model 8095_7447720100_10u
pins: 1, 2

## 7447720101
designator L?, comment 100uH, 1.3A  (value not drawn)
WE-TI Radial Leaded Wire Wound Inductor, size 8095, 100uH, 1.3A, 0.22Ohm; Manufacturer Part Number: 7447720101; Manufacturer: Wurth Elektronik; Case/Size Code: 8095; Saturation Current @ 10%: 1.6A; Self Resonant Frequency: 6.1MHz; Category: Power Inductors; Match Code: WE-TI; ComponentLink1Description: Website Link; ComponentLink1URL: https://www.we-online.com/redexpert/article/7447720101?ad; ComponentLink2Description: Datasheet Link; ComponentLink2URL: https://www.we-online.com/redexpert/spec/7447720101?ad; Mount: Through Hole; Operating Temperature Max: 125°C; Operating Temperature Min: -40°C; Packaging: Tray; Height: 9.5mm; Diameter: 7.8mm; DC Resistance Max: 0.22Ohm; Inductance: 100uH; Rated Current: 1.3A
footprint WE-TI_8095
simulation model 8095_7447720101_100u
pins: 1, 2

## 7447720102
designator L?, comment 1000uH, 0.44A  (value not drawn)
WE-TI Radial Leaded Wire Wound Inductor, size 8095, 1000uH, 0.44A, 2.15Ohm; Manufacturer Part Number: 7447720102; Manufacturer: Wurth Elektronik; Case/Size Code: 8095; Saturation Current @ 10%: 0.51A; Self Resonant Frequency: 1.6MHz; Category: Power Inductors; Match Code: WE-TI; ComponentLink1Description: Website Link; ComponentLink1URL: https://www.we-online.com/redexpert/article/7447720102?ad; ComponentLink2Description: Datasheet Link; ComponentLink2URL: https://www.we-online.com/redexpert/spec/7447720102?ad; Mount: Through Hole; Operating Temperature Max: 125°C; Operating Temperature Min: -40°C; Packaging: Tray; Height: 9.5mm; Diameter: 7.8mm; DC Resistance Max: 2.15Ohm; Inductance: 1000uH; Rated Current: 0.44A
footprint WE-TI_8095
simulation model 8095_7447720102_1000u
pins: 1, 2

## 7447720103
designator L?, comment 10000uH, 0.13A  (value not drawn)
WE-TI Radial Leaded Wire Wound Inductor, size 8095, 10000uH, 0.13A, 24Ohm; Manufacturer Part Number: 7447720103; Manufacturer: Wurth Elektronik; Case/Size Code: 8095; Saturation Current @ 10%: 0.16A; Self Resonant Frequency: 0.52MHz; Category: Power Inductors; Match Code: WE-TI; ComponentLink1Description: Website Link; ComponentLink1URL: https://www.we-online.com/redexpert/article/7447720103?ad; ComponentLink2Description: Datasheet Link; ComponentLink2URL: https://www.we-online.com/redexpert/spec/7447720103?ad; Mount: Through Hole; Operating Temperature Max: 125°C; Operating Temperature Min: -40°C; Packaging: Tray; Height: 9.5mm; Diameter: 7.8mm; DC Resistance Max: 24Ohm; Inductance: 10000uH; Rated Current: 0.13A
footprint WE-TI_8095
simulation model 8095_7447720103_10000u
pins: 1, 2

## 7447720121
designator L?, comment 120uH, 1.3A  (value not drawn)
WE-TI Radial Leaded Wire Wound Inductor, size 8095, 120uH, 1.3A, 0.28Ohm; Manufacturer Part Number: 7447720121; Manufacturer: Wurth Elektronik; Case/Size Code: 8095; Saturation Current @ 10%: 1.4A; Self Resonant Frequency: 5.4MHz; Category: Power Inductors; Match Code: WE-TI; ComponentLink1Description: Website Link; ComponentLink1URL: https://www.we-online.com/redexpert/article/7447720121?ad; ComponentLink2Description: Datasheet Link; ComponentLink2URL: https://www.we-online.com/redexpert/spec/7447720121?ad; Mount: Through Hole; Operating Temperature Max: 125°C; Operating Temperature Min: -40°C; Packaging: Tray; Height: 9.5mm; Diameter: 7.8mm; DC Resistance Max: 0.28Ohm; Inductance: 120uH; Rated Current: 1.3A
footprint WE-TI_8095
simulation model 8095_7447720121_120u
pins: 1, 2

## 7447720122
designator L?, comment 1200uH, 0.42A  (value not drawn)
WE-TI Radial Leaded Wire Wound Inductor, size 8095, 1200uH, 0.42A, 2.39Ohm; Manufacturer Part Number: 7447720122; Manufacturer: Wurth Elektronik; Case/Size Code: 8095; Self Resonant Frequency: 1.5MHz; Category: Power Inductors; Match Code: WE-TI; ComponentLink1Description: Website Link; ComponentLink1URL: https://www.we-online.com/redexpert/article/7447720122?ad; ComponentLink2Description: Datasheet Link; ComponentLink2URL: https://www.we-online.com/redexpert/spec/7447720122?ad; Mount: Through Hole; Operating Temperature Max: 125°C; Operating Temperature Min: -40°C; Packaging: Tray; Height: 9.5mm; Diameter: 7.8mm; DC Resistance Max: 2.39Ohm; Inductance: 1200uH; Rated Current: 0.42A; Saturation Current @ 10%: 0.42A
footprint WE-TI_8095
simulation model 8095_7447720122_1200u
pins: 1, 2

## 7447720150
designator L?, comment 15uH, 3.2A  (value not drawn)
WE-TI Radial Leaded Wire Wound Inductor, size 8095, 15uH, 3.2A, 0.048Ohm; Manufacturer Part Number: 7447720150; Manufacturer: Wurth Elektronik; Case/Size Code: 8095; Saturation Current @ 10%: 4A; Self Resonant Frequency: 16MHz; Category: Power Inductors; Match Code: WE-TI; ComponentLink1Description: Website Link; ComponentLink1URL: https://www.we-online.com/redexpert/article/7447720150?ad; ComponentLink2Description: Datasheet Link; ComponentLink2URL: https://www.we-online.com/redexpert/spec/7447720150?ad; Mount: Through Hole; Operating Temperature Max: 125°C; Operating Temperature Min: -40°C; Packaging: Tray; Height: 9.5mm; Diameter: 7.8mm; DC Resistance Max: 0.048Ohm; Inductance: 15uH; Rated Current: 3.2A
footprint WE-TI_8095
simulation model 8095_7447720150_15u
pins: 1, 2

## 7447720151
designator L?, comment 150uH, 1.1A  (value not drawn)
WE-TI Radial Leaded Wire Wound Inductor, size 8095, 150uH, 1.1A, 0.35Ohm; Manufacturer Part Number: 7447720151; Manufacturer: Wurth Elektronik; Case/Size Code: 8095; Self Resonant Frequency: 4.5MHz; Category: Power Inductors; Match Code: WE-TI; ComponentLink1Description: Website Link; ComponentLink1URL: https://www.we-online.com/redexpert/article/7447720151?ad; ComponentLink2Description: Datasheet Link; ComponentLink2URL: https://www.we-online.com/redexpert/spec/7447720151?ad; Mount: Through Hole; Operating Temperature Max: 125°C; Operating Temperature Min: -40°C; Packaging: Tray; Height: 9.5mm; Diameter: 7.8mm; DC Resistance Max: 0.35Ohm; Inductance: 150uH; Rated Current: 1.1A; Saturation Current @ 10%: 1.1A
footprint WE-TI_8095
simulation model 8095_7447720151_150u
pins: 1, 2

## 7447720152
designator L?, comment 1500uH, 0.37A  (value not drawn)
WE-TI Radial Leaded Wire Wound Inductor, size 8095, 1500uH, 0.37A, 3Ohm; Manufacturer Part Number: 7447720152; Manufacturer: Wurth Elektronik; Case/Size Code: 8095; Saturation Current @ 10%: 0.42A; Self Resonant Frequency: 1.3MHz; Category: Power Inductors; Match Code: WE-TI; ComponentLink1Description: Website Link; ComponentLink1URL: https://www.we-online.com/redexpert/article/7447720152?ad; ComponentLink2Description: Datasheet Link; ComponentLink2URL: https://www.we-online.com/redexpert/spec/7447720152?ad; Mount: Through Hole; Operating Temperature Max: 125°C; Operating Temperature Min: -40°C; Packaging: Tray; Height: 9.5mm; Diameter: 7.8mm; DC Resistance Max: 3Ohm; Inductance: 1500uH; Rated Current: 0.37A
footprint WE-TI_8095
simulation model 8095_7447720152_1500u
pins: 1, 2

## 7447720180
designator L?, comment 18uH, 3.1A  (value not drawn)
WE-TI Radial Leaded Wire Wound Inductor, size 8095, 18uH, 3.1A, 0.053Ohm; Manufacturer Part Number: 7447720180; Manufacturer: Wurth Elektronik; Case/Size Code: 8095; Saturation Current @ 10%: 3.7A; Self Resonant Frequency: 15MHz; Category: Power Inductors; Match Code: WE-TI; ComponentLink1Description: Website Link; ComponentLink1URL: https://www.we-online.com/redexpert/article/7447720180?ad; ComponentLink2Description: Datasheet Link; ComponentLink2URL: https://www.we-online.com/redexpert/spec/7447720180?ad; Mount: Through Hole; Operating Temperature Max: 125°C; Operating Temperature Min: -40°C; Packaging: Tray; Height: 9.5mm; Diameter: 7.8mm; DC Resistance Max: 0.053Ohm; Inductance: 18uH; Rated Current: 3.1A
footprint WE-TI_8095
simulation model 8095_7447720180_18u
pins: 1, 2

## 7447720181
designator L?, comment 180uH, 1A  (value not drawn)
WE-TI Radial Leaded Wire Wound Inductor, size 8095, 180uH, 1A, 0.43Ohm; Manufacturer Part Number: 7447720181; Manufacturer: Wurth Elektronik; Case/Size Code: 8095; Self Resonant Frequency: 3.8MHz; Category: Power Inductors; Match Code: WE-TI; ComponentLink1Description: Website Link; ComponentLink1URL: https://www.we-online.com/redexpert/article/7447720181?ad; ComponentLink2Description: Datasheet Link; ComponentLink2URL: https://www.we-online.com/redexpert/spec/7447720181?ad; Mount: Through Hole; Operating Temperature Max: 125°C; Operating Temperature Min: -40°C; Packaging: Tray; Height: 9.5mm; Diameter: 7.8mm; DC Resistance Max: 0.43Ohm; Inductance: 180uH; Rated Current: 1A; Saturation Current @ 10%: 1A
footprint WE-TI_8095
simulation model 8095_7447720181_180u
pins: 1, 2

## 7447720182
designator L?, comment 1800uH, 0.32A  (value not drawn)
WE-TI Radial Leaded Wire Wound Inductor, size 8095, 1800uH, 0.32A, 4.51Ohm; Manufacturer Part Number: 7447720182; Manufacturer: Wurth Elektronik; Case/Size Code: 8095; Saturation Current @ 10%: 0.39A; Self Resonant Frequency: 1.3MHz; Category: Power Inductors; Match Code: WE-TI; ComponentLink1Description: Website Link; ComponentLink1URL: https://www.we-online.com/redexpert/article/7447720182?ad; ComponentLink2Description: Datasheet Link; ComponentLink2URL: https://www.we-online.com/redexpert/spec/7447720182?ad; Mount: Through Hole; Operating Temperature Max: 125°C; Operating Temperature Min: -40°C; Packaging: Tray; Height: 9.5mm; Diameter: 7.8mm; DC Resistance Max: 4.51Ohm; Inductance: 1800uH; Rated Current: 0.32A
footprint WE-TI_8095
simulation model 8095_7447720182_1800u
pins: 1, 2

## 7447720200
designator L?, comment 20uH, 3.1A  (value not drawn)
WE-TI Radial Leaded Wire Wound Inductor, size 8095, 20uH, 3.1A, 0.054Ohm; Manufacturer Part Number: 7447720200; Manufacturer: Wurth Elektronik; Case/Size Code: 8095; Saturation Current @ 10%: 3.5A; Self Resonant Frequency: 15MHz; Category: Power Inductors; Match Code: WE-TI; ComponentLink1Description: Website Link; ComponentLink1URL: https://www.we-online.com/redexpert/article/7447720200?ad; ComponentLink2Description: Datasheet Link; ComponentLink2URL: https://www.we-online.com/redexpert/spec/7447720200?ad; Mount: Through Hole; Operating Temperature Max: 125°C; Operating Temperature Min: -40°C; Packaging: Tray; Height: 9.5mm; Diameter: 7.8mm; DC Resistance Max: 0.054Ohm; Inductance: 20uH; Rated Current: 3.1A
footprint WE-TI_8095
simulation model 8095_7447720200_20u
pins: 1, 2

## 7447720220
designator L?, comment 22uH, 3A  (value not drawn)
WE-TI Radial Leaded Wire Wound Inductor, size 8095, 22uH, 3A, 0.055Ohm; Manufacturer Part Number: 7447720220; Manufacturer: Wurth Elektronik; Case/Size Code: 8095; Saturation Current @ 10%: 3.3A; Self Resonant Frequency: 13MHz; Category: Power Inductors; Match Code: WE-TI; ComponentLink1Description: Website Link; ComponentLink1URL: https://www.we-online.com/redexpert/article/7447720220?ad; ComponentLink2Description: Datasheet Link; ComponentLink2URL: https://www.we-online.com/redexpert/spec/7447720220?ad; Mount: Through Hole; Operating Temperature Max: 125°C; Operating Temperature Min: -40°C; Packaging: Tray; Height: 9.5mm; Diameter: 7.8mm; DC Resistance Max: 0.055Ohm; Inductance: 22uH; Rated Current: 3A
footprint WE-TI_8095
simulation model 8095_7447720220_22u
pins: 1, 2